# Altium integrated library Silicon Labs Wireless.IntLib: 71 symbols (part 1 of 7)
Pins are listed as number, name and electrical type; pins without a type are passive.

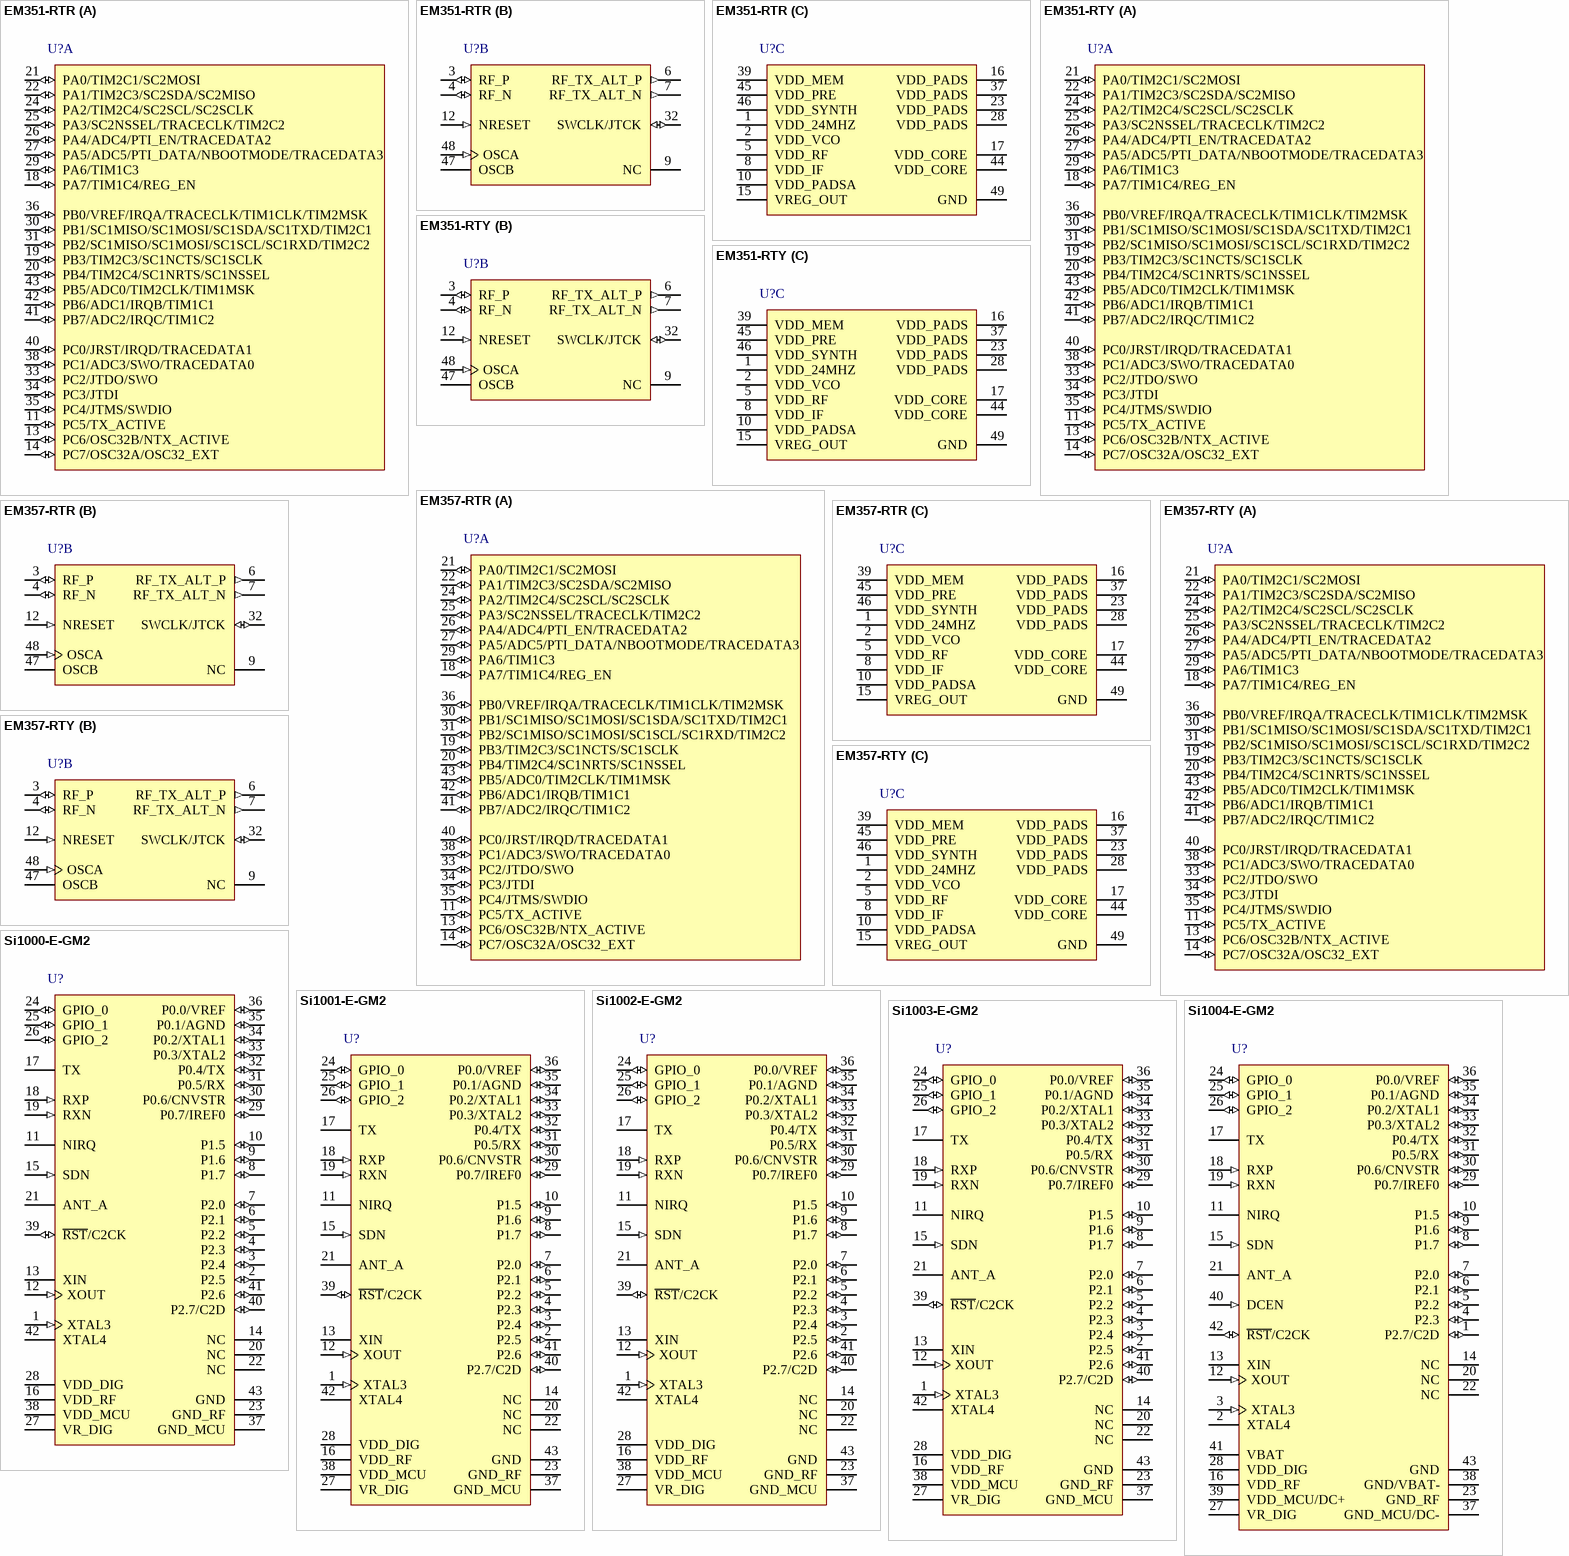
[diagram p0: symbols EM351-RTR to Si1004-E-GM2]

## EM351-RTR
designator U?
2.4 GHz High-Performance, Integrated ZigBee / 802.15.4 System-on-Chip, 2.1 to 3.6 V, 128 kB Flash, 12 kB RAM, -40 to 85 degC, 48-pin QFN, Tape and Reel; Manufacturer: Silicon Labs; PartNumber: EM351-RTR; Adj Channel Rejection (15.4): 35 dB; Crystal Frequency: 24 MHz; Deep Sleep Current: 0.4 uA (no timer); Flash: 128 kB; Frequency Range: 2400 to 2500 MHz; Internal RC Osc. Frequency: 12 MHz; RAM: 12 kB; RX Current: 26.5 mA (normal); Sensitivity: -102 dBm (boost); Total Link Budget: 110 dB (boost); TX Current: 31 mA (normal @ +3 dBm); TX Power: -55 dBm to +8 dBm (boost); DatasheetVersion: Rev. 1.2; PackageReference: QFN-48; PackageDescription: 48-Pin Quad-Flat No-Leads Package, Body 7 x 7 mm, Pitch 0.5 mm; Supplier 1: Digi-Key; Supplier Part Number 1: 636-1010-2-ND; Supplier 2: Digi-Key; Supplier Part Number 2: 636-1010-1-ND; Supplier 3: Mouser; Supplier Part Number 3: 634-EM351-RTR; Packing: Reel; Voltage: 2.1 to 3.6 V; Sub-Family: ZigBee; Mounting Technology: Surface Mount; Code_JEDEC: MO - 220; ComponentLink1Description: Manufacturer URL; ComponentLink1URL: http://www.silabs.com/; ComponentLink2Description: Datasheet; ComponentLink2URL: http://www.silabs.com/Support Documents/TechnicalDocs/EM35x.pdf; ComponentLink3Description: Package Specification; ComponentLink3URL: http://www.silabs.com/Support%20Documents/TechnicalDocs/EM35x.pdf
footprint SLAB-QFN-48-5300x5300TP_N (QFN, 48-Leads, Body 7x7mm, Pitch 0.5mm, Thermal Pad 5.3x5.3mm, IPC Medium Density)
footprint SLAB-QFN-48-5300x5300TP_L (QFN, 48-Leads, Body 7x7mm, Pitch 0.5mm, Thermal Pad 5.3x5.3mm, IPC High Density)
footprint SLAB-QFN-48-5300x5300TP_M (QFN, 48-Leads, Body 7x7mm, Pitch 0.5mm, Thermal Pad 5.3x5.3mm, IPC Low Density)
part A pins: 11 PC5/TX_ACTIVE (io), 13 PC6/OSC32B/NTX_ACTIVE (io), 14 PC7/OSC32A/OSC32_EXT (io), 18 PA7/TIM1C4/REG_EN (io), 19 PB3/TIM2C3/SC1NCTS/SC1SCLK (io), 20 PB4/TIM2C4/SC1NRTS/SC1NSSEL (io), 21 PA0/TIM2C1/SC2MOSI (io), 22 PA1/TIM2C3/SC2SDA/SC2MISO (io), 24 PA2/TIM2C4/SC2SCL/SC2SCLK (io), 25 PA3/SC2NSSEL/TRACECLK/TIM2C2 (io), 26 PA4/ADC4/PTI_EN/TRACEDATA2 (io), 27 PA5/ADC5/PTI_DATA/NBOOTMODE/TRACEDATA3 (io), 29 PA6/TIM1C3 (io), 30 PB1/SC1MISO/SC1MOSI/SC1SDA/SC1TXD/TIM2C1 (io), 31 PB2/SC1MISO/SC1MOSI/SC1SCL/SC1RXD/TIM2C2 (io), 33 PC2/JTDO/SWO (io), 34 PC3/JTDI (io), 35 PC4/JTMS/SWDIO (io), 36 PB0/VREF/IRQA/TRACECLK/TIM1CLK/TIM2MSK (io), 38 PC1/ADC3/SWO/TRACEDATA0 (io), 40 PC0/JRST/IRQD/TRACEDATA1 (io), 41 PB7/ADC2/IRQC/TIM1C2 (io), 42 PB6/ADC1/IRQB/TIM1C1 (io), 43 PB5/ADC0/TIM2CLK/TIM1MSK (io)
part B pins: 3 RF_P (io) "Differential (with RF_N) receiver input/transmitter output", 4 RF_N (io) "Differential (with RF_P) receiver input/transmitter output", 6 RF_TX_ALT_P (out) "Differential (with RF_TX_ALT_N) transmitter output (optional)", 7 RF_TX_ALT_N (out) "Differential (with RF_TX_ALT_P) transmitter output (optional)", 9 NC "Do not connect", 12 NRESET (in) "Active low chip reset (internal pull-up)", 32 SWCLK/JTCK (io), 47 OSCB "24 MHz crystal oscillator or left open when using external clock input on OSCA", 48 OSCA (in) "24 MHz crystal oscillator or external clock input.(An external clock input should only be used for test and debug purposes. If used in this manner, the external clock input should be a 1.8 V, 50% duty cycle, square wave.)"
part C pins: 1 VDD_24MHZ (power) "1.8 V high-frequency oscillator supply", 2 VDD_VCO (power) "1.8 V VCO supply", 5 VDD_RF (power) "1.8 V RF supply (LNA and PA)", 8 VDD_IF (power) "1.8 V IF supply (mixers and filters)", 10 VDD_PADSA (power) "Analog pad supply (1.8 V)", 15 VREG_OUT (power) "Regulator output (1.8 V while awake, 0 V during deep sleep)", 16 VDD_PADS (power) "Pads supply (2.1-3.6 V)", 17 VDD_CORE (power) "1.25 V digital core supply decoupling", 23 VDD_PADS (power) "Pads supply (2.1-3.6 V)", 28 VDD_PADS (power) "Pads supply (2.1-3.6 V)", 37 VDD_PADS (power) "Pads supply (2.1-3.6 V)", 39 VDD_MEM (power) "1.8 V supply (flash, RAM)", 44 VDD_CORE (power) "1.25 V digital core supply decoupling", 45 VDD_PRE (power) "1.8 V prescaler supply", 46 VDD_SYNTH (power) "1.8 V synthesizer supply", 49 GND (power) "Ground supply pad in the bottom center of the package forms Pin 49. See the various Silicon Labs EM35x Reference Design documentation for PCB considerations."

## EM351-RTY
designator U?
2.4 GHz High-Performance, Integrated ZigBee / 802.15.4 System-on-Chip, 2.1 to 3.6 V, 128 kB Flash, 12 kB RAM, -40 to 85 degC, 48-pin QFN, Tray; Manufacturer: Silicon Labs; PartNumber: EM351-RTY; Adj Channel Rejection (15.4): 35 dB; Crystal Frequency: 24 MHz; Deep Sleep Current: 0.4 uA (no timer); Flash: 128 kB; Frequency Range: 2400 to 2500 MHz; Internal RC Osc. Frequency: 12 MHz; RAM: 12 kB; RX Current: 26.5 mA (normal); Sensitivity: -102 dBm (boost); Total Link Budget: 110 dB (boost); TX Current: 31 mA (normal @ +3 dBm); TX Power: -55 dBm to +8 dBm (boost); DatasheetVersion: Rev. 1.2; PackageReference: QFN-48; PackageDescription: 48-Pin Quad-Flat No-Leads Package, Body 7 x 7 mm, Pitch 0.5 mm; Packing: Tray; Voltage: 2.1 to 3.6 V; Sub-Family: ZigBee; Mounting Technology: Surface Mount; Code_JEDEC: MO - 220; ComponentLink1Description: Manufacturer URL; ComponentLink1URL: http://www.silabs.com/; ComponentLink2Description: Datasheet; ComponentLink2URL: http://www.silabs.com/Support Documents/TechnicalDocs/EM35x.pdf; ComponentLink3Description: Package Specification; ComponentLink3URL: http://www.silabs.com/Support%20Documents/TechnicalDocs/EM35x.pdf
footprint SLAB-QFN-48-5300x5300TP_N (QFN, 48-Leads, Body 7x7mm, Pitch 0.5mm, Thermal Pad 5.3x5.3mm, IPC Medium Density)
footprint SLAB-QFN-48-5300x5300TP_L (QFN, 48-Leads, Body 7x7mm, Pitch 0.5mm, Thermal Pad 5.3x5.3mm, IPC High Density)
footprint SLAB-QFN-48-5300x5300TP_M (QFN, 48-Leads, Body 7x7mm, Pitch 0.5mm, Thermal Pad 5.3x5.3mm, IPC Low Density)
part A pins: 11 PC5/TX_ACTIVE (io), 13 PC6/OSC32B/NTX_ACTIVE (io), 14 PC7/OSC32A/OSC32_EXT (io), 18 PA7/TIM1C4/REG_EN (io), 19 PB3/TIM2C3/SC1NCTS/SC1SCLK (io), 20 PB4/TIM2C4/SC1NRTS/SC1NSSEL (io), 21 PA0/TIM2C1/SC2MOSI (io), 22 PA1/TIM2C3/SC2SDA/SC2MISO (io), 24 PA2/TIM2C4/SC2SCL/SC2SCLK (io), 25 PA3/SC2NSSEL/TRACECLK/TIM2C2 (io), 26 PA4/ADC4/PTI_EN/TRACEDATA2 (io), 27 PA5/ADC5/PTI_DATA/NBOOTMODE/TRACEDATA3 (io), 29 PA6/TIM1C3 (io), 30 PB1/SC1MISO/SC1MOSI/SC1SDA/SC1TXD/TIM2C1 (io), 31 PB2/SC1MISO/SC1MOSI/SC1SCL/SC1RXD/TIM2C2 (io), 33 PC2/JTDO/SWO (io), 34 PC3/JTDI (io), 35 PC4/JTMS/SWDIO (io), 36 PB0/VREF/IRQA/TRACECLK/TIM1CLK/TIM2MSK (io), 38 PC1/ADC3/SWO/TRACEDATA0 (io), 40 PC0/JRST/IRQD/TRACEDATA1 (io), 41 PB7/ADC2/IRQC/TIM1C2 (io), 42 PB6/ADC1/IRQB/TIM1C1 (io), 43 PB5/ADC0/TIM2CLK/TIM1MSK (io)
part B pins: 3 RF_P (io) "Differential (with RF_N) receiver input/transmitter output", 4 RF_N (io) "Differential (with RF_P) receiver input/transmitter output", 6 RF_TX_ALT_P (out) "Differential (with RF_TX_ALT_N) transmitter output (optional)", 7 RF_TX_ALT_N (out) "Differential (with RF_TX_ALT_P) transmitter output (optional)", 9 NC "Do not connect", 12 NRESET (in) "Active low chip reset (internal pull-up)", 32 SWCLK/JTCK (io), 47 OSCB "24 MHz crystal oscillator or left open when using external clock input on OSCA", 48 OSCA (in) "24 MHz crystal oscillator or external clock input.(An external clock input should only be used for test and debug purposes. If used in this manner, the external clock input should be a 1.8 V, 50% duty cycle, square wave.)"
part C pins: 1 VDD_24MHZ (power) "1.8 V high-frequency oscillator supply", 2 VDD_VCO (power) "1.8 V VCO supply", 5 VDD_RF (power) "1.8 V RF supply (LNA and PA)", 8 VDD_IF (power) "1.8 V IF supply (mixers and filters)", 10 VDD_PADSA (power) "Analog pad supply (1.8 V)", 15 VREG_OUT (power) "Regulator output (1.8 V while awake, 0 V during deep sleep)", 16 VDD_PADS (power) "Pads supply (2.1-3.6 V)", 17 VDD_CORE (power) "1.25 V digital core supply decoupling", 23 VDD_PADS (power) "Pads supply (2.1-3.6 V)", 28 VDD_PADS (power) "Pads supply (2.1-3.6 V)", 37 VDD_PADS (power) "Pads supply (2.1-3.6 V)", 39 VDD_MEM (power) "1.8 V supply (flash, RAM)", 44 VDD_CORE (power) "1.25 V digital core supply decoupling", 45 VDD_PRE (power) "1.8 V prescaler supply", 46 VDD_SYNTH (power) "1.8 V synthesizer supply", 49 GND (power) "Ground supply pad in the bottom center of the package forms Pin 49. See the various Silicon Labs EM35x Reference Design documentation for PCB considerations."

## EM357-RTR
designator U?
2.4 GHz High-Performance, Integrated ZigBee / 802.15.4 System-on-Chip, 2.1 to 3.6 V, 192 kB Flash, 12 kB RAM, -40 to 85 degC, 48-pin QFN, Tape and Reel; Manufacturer: Silicon Labs; PartNumber: EM357-RTR; Adj Channel Rejection (15.4): 35 dB; Crystal Frequency: 24 MHz; Deep Sleep Current: 0.4 uA (no timer); Flash: 192 kB; Frequency Range: 2400 to 2500 MHz; Internal RC Osc. Frequency: 12 MHz; RAM: 12 kB; RX Current: 26.5 mA (normal); Sensitivity: -102 dBm (boost); Total Link Budget: 110 dB (boost); TX Current: 31 mA (normal @ +3 dBm); TX Power: -55 dBm to +8 dBm (boost); DatasheetVersion: Rev. 1.2; PackageReference: QFN-48; PackageDescription: 48-Pin Quad-Flat No-Leads Package, Body 7 x 7 mm, Pitch 0.5 mm; Supplier 1: Digi-Key; Supplier Part Number 1: 636-1011-2-ND; Supplier 2: Digi-Key; Supplier Part Number 2: 636-1011-1-ND; Supplier 3: Digi-Key; Supplier Part Number 3: 636-1011-6-ND; Supplier 4: Mouser; Supplier Part Number 4: 634-EM357-RTR; Packing: Reel; Voltage: 2.1 to 3.6 V; Sub-Family: ZigBee; Mounting Technology: Surface Mount; Code_JEDEC: MO - 220; ComponentLink1Description: Manufacturer URL; ComponentLink1URL: http://www.silabs.com/; ComponentLink2Description: Datasheet; ComponentLink2URL: http://www.silabs.com/Support Documents/TechnicalDocs/EM35x.pdf; ComponentLink3Description: Package Specification; ComponentLink3URL: http://www.silabs.com/Support%20Documents/TechnicalDocs/EM35x.pdf
footprint SLAB-QFN-48-5300x5300TP_N (QFN, 48-Leads, Body 7x7mm, Pitch 0.5mm, Thermal Pad 5.3x5.3mm, IPC Medium Density)
footprint SLAB-QFN-48-5300x5300TP_L (QFN, 48-Leads, Body 7x7mm, Pitch 0.5mm, Thermal Pad 5.3x5.3mm, IPC High Density)
footprint SLAB-QFN-48-5300x5300TP_M (QFN, 48-Leads, Body 7x7mm, Pitch 0.5mm, Thermal Pad 5.3x5.3mm, IPC Low Density)
part A pins: 11 PC5/TX_ACTIVE (io), 13 PC6/OSC32B/NTX_ACTIVE (io), 14 PC7/OSC32A/OSC32_EXT (io), 18 PA7/TIM1C4/REG_EN (io), 19 PB3/TIM2C3/SC1NCTS/SC1SCLK (io), 20 PB4/TIM2C4/SC1NRTS/SC1NSSEL (io), 21 PA0/TIM2C1/SC2MOSI (io), 22 PA1/TIM2C3/SC2SDA/SC2MISO (io), 24 PA2/TIM2C4/SC2SCL/SC2SCLK (io), 25 PA3/SC2NSSEL/TRACECLK/TIM2C2 (io), 26 PA4/ADC4/PTI_EN/TRACEDATA2 (io), 27 PA5/ADC5/PTI_DATA/NBOOTMODE/TRACEDATA3 (io), 29 PA6/TIM1C3 (io), 30 PB1/SC1MISO/SC1MOSI/SC1SDA/SC1TXD/TIM2C1 (io), 31 PB2/SC1MISO/SC1MOSI/SC1SCL/SC1RXD/TIM2C2 (io), 33 PC2/JTDO/SWO (io), 34 PC3/JTDI (io), 35 PC4/JTMS/SWDIO (io), 36 PB0/VREF/IRQA/TRACECLK/TIM1CLK/TIM2MSK (io), 38 PC1/ADC3/SWO/TRACEDATA0 (io), 40 PC0/JRST/IRQD/TRACEDATA1 (io), 41 PB7/ADC2/IRQC/TIM1C2 (io), 42 PB6/ADC1/IRQB/TIM1C1 (io), 43 PB5/ADC0/TIM2CLK/TIM1MSK (io)
part B pins: 3 RF_P (io) "Differential (with RF_N) receiver input/transmitter output", 4 RF_N (io) "Differential (with RF_P) receiver input/transmitter output", 6 RF_TX_ALT_P (out) "Differential (with RF_TX_ALT_N) transmitter output (optional)", 7 RF_TX_ALT_N (out) "Differential (with RF_TX_ALT_P) transmitter output (optional)", 9 NC "Do not connect", 12 NRESET (in) "Active low chip reset (internal pull-up)", 32 SWCLK/JTCK (io), 47 OSCB "24 MHz crystal oscillator or left open when using external clock input on OSCA", 48 OSCA (in) "24 MHz crystal oscillator or external clock input.(An external clock input should only be used for test and debug purposes. If used in this manner, the external clock input should be a 1.8 V, 50% duty cycle, square wave.)"
part C pins: 1 VDD_24MHZ (power) "1.8 V high-frequency oscillator supply", 2 VDD_VCO (power) "1.8 V VCO supply", 5 VDD_RF (power) "1.8 V RF supply (LNA and PA)", 8 VDD_IF (power) "1.8 V IF supply (mixers and filters)", 10 VDD_PADSA (power) "Analog pad supply (1.8 V)", 15 VREG_OUT (power) "Regulator output (1.8 V while awake, 0 V during deep sleep)", 16 VDD_PADS (power) "Pads supply (2.1-3.6 V)", 17 VDD_CORE (power) "1.25 V digital core supply decoupling", 23 VDD_PADS (power) "Pads supply (2.1-3.6 V)", 28 VDD_PADS (power) "Pads supply (2.1-3.6 V)", 37 VDD_PADS (power) "Pads supply (2.1-3.6 V)", 39 VDD_MEM (power) "1.8 V supply (flash, RAM)", 44 VDD_CORE (power) "1.25 V digital core supply decoupling", 45 VDD_PRE (power) "1.8 V prescaler supply", 46 VDD_SYNTH (power) "1.8 V synthesizer supply", 49 GND (power) "Ground supply pad in the bottom center of the package forms Pin 49. See the various Silicon Labs EM35x Reference Design documentation for PCB considerations."

## EM357-RTY
designator U?
2.4 GHz High-Performance, Integrated ZigBee / 802.15.4 System-on-Chip, 2.1 to 3.6 V, 192 kB Flash, 12 kB RAM, -40 to 85 degC, 48-pin QFN, Tray; Manufacturer: Silicon Labs; PartNumber: EM357-RTY; Adj Channel Rejection (15.4): 35 dB; Crystal Frequency: 24 MHz; Deep Sleep Current: 0.4 uA (no timer); Flash: 192 kB; Frequency Range: 2400 to 2500 MHz; Internal RC Osc. Frequency: 12 MHz; RAM: 12 kB; RX Current: 26.5 mA (normal); Sensitivity: -102 dBm (boost); Total Link Budget: 110 dB (boost); TX Current: 31 mA (normal @ +3 dBm); TX Power: -55 dBm to +8 dBm (boost); DatasheetVersion: Rev. 1.2; PackageReference: QFN-48; PackageDescription: 48-Pin Quad-Flat No-Leads Package, Body 7 x 7 mm, Pitch 0.5 mm; Packing: Tray; Voltage: 2.1 to 3.6 V; Sub-Family: ZigBee; Mounting Technology: Surface Mount; Code_JEDEC: MO - 220; ComponentLink1Description: Manufacturer URL; ComponentLink1URL: http://www.silabs.com/; ComponentLink2Description: Datasheet; ComponentLink2URL: http://www.silabs.com/Support Documents/TechnicalDocs/EM35x.pdf; ComponentLink3Description: Package Specification; ComponentLink3URL: http://www.silabs.com/Support%20Documents/TechnicalDocs/EM35x.pdf
footprint SLAB-QFN-48-5300x5300TP_N (QFN, 48-Leads, Body 7x7mm, Pitch 0.5mm, Thermal Pad 5.3x5.3mm, IPC Medium Density)
footprint SLAB-QFN-48-5300x5300TP_L (QFN, 48-Leads, Body 7x7mm, Pitch 0.5mm, Thermal Pad 5.3x5.3mm, IPC High Density)
footprint SLAB-QFN-48-5300x5300TP_M (QFN, 48-Leads, Body 7x7mm, Pitch 0.5mm, Thermal Pad 5.3x5.3mm, IPC Low Density)
part A pins: 11 PC5/TX_ACTIVE (io), 13 PC6/OSC32B/NTX_ACTIVE (io), 14 PC7/OSC32A/OSC32_EXT (io), 18 PA7/TIM1C4/REG_EN (io), 19 PB3/TIM2C3/SC1NCTS/SC1SCLK (io), 20 PB4/TIM2C4/SC1NRTS/SC1NSSEL (io), 21 PA0/TIM2C1/SC2MOSI (io), 22 PA1/TIM2C3/SC2SDA/SC2MISO (io), 24 PA2/TIM2C4/SC2SCL/SC2SCLK (io), 25 PA3/SC2NSSEL/TRACECLK/TIM2C2 (io), 26 PA4/ADC4/PTI_EN/TRACEDATA2 (io), 27 PA5/ADC5/PTI_DATA/NBOOTMODE/TRACEDATA3 (io), 29 PA6/TIM1C3 (io), 30 PB1/SC1MISO/SC1MOSI/SC1SDA/SC1TXD/TIM2C1 (io), 31 PB2/SC1MISO/SC1MOSI/SC1SCL/SC1RXD/TIM2C2 (io), 33 PC2/JTDO/SWO (io), 34 PC3/JTDI (io), 35 PC4/JTMS/SWDIO (io), 36 PB0/VREF/IRQA/TRACECLK/TIM1CLK/TIM2MSK (io), 38 PC1/ADC3/SWO/TRACEDATA0 (io), 40 PC0/JRST/IRQD/TRACEDATA1 (io), 41 PB7/ADC2/IRQC/TIM1C2 (io), 42 PB6/ADC1/IRQB/TIM1C1 (io), 43 PB5/ADC0/TIM2CLK/TIM1MSK (io)
part B pins: 3 RF_P (io) "Differential (with RF_N) receiver input/transmitter output", 4 RF_N (io) "Differential (with RF_P) receiver input/transmitter output", 6 RF_TX_ALT_P (out) "Differential (with RF_TX_ALT_N) transmitter output (optional)", 7 RF_TX_ALT_N (out) "Differential (with RF_TX_ALT_P) transmitter output (optional)", 9 NC "Do not connect", 12 NRESET (in) "Active low chip reset (internal pull-up)", 32 SWCLK/JTCK (io), 47 OSCB "24 MHz crystal oscillator or left open when using external clock input on OSCA", 48 OSCA (in) "24 MHz crystal oscillator or external clock input.(An external clock input should only be used for test and debug purposes. If used in this manner, the external clock input should be a 1.8 V, 50% duty cycle, square wave.)"
part C pins: 1 VDD_24MHZ (power) "1.8 V high-frequency oscillator supply", 2 VDD_VCO (power) "1.8 V VCO supply", 5 VDD_RF (power) "1.8 V RF supply (LNA and PA)", 8 VDD_IF (power) "1.8 V IF supply (mixers and filters)", 10 VDD_PADSA (power) "Analog pad supply (1.8 V)", 15 VREG_OUT (power) "Regulator output (1.8 V while awake, 0 V during deep sleep)", 16 VDD_PADS (power) "Pads supply (2.1-3.6 V)", 17 VDD_CORE (power) "1.25 V digital core supply decoupling", 23 VDD_PADS (power) "Pads supply (2.1-3.6 V)", 28 VDD_PADS (power) "Pads supply (2.1-3.6 V)", 37 VDD_PADS (power) "Pads supply (2.1-3.6 V)", 39 VDD_MEM (power) "1.8 V supply (flash, RAM)", 44 VDD_CORE (power) "1.25 V digital core supply decoupling", 45 VDD_PRE (power) "1.8 V prescaler supply", 46 VDD_SYNTH (power) "1.8 V synthesizer supply", 49 GND (power) "Ground supply pad in the bottom center of the package forms Pin 49. See the various Silicon Labs EM35x Reference Design documentation for PCB considerations."

## Si1000-E-GM2
designator U?
Ultra Low Power, 10-Bit ADC MCU with Integrated 240 to 960 MHz EZRadioPRO(R) Transceiver, 64 kB Flash, 4 Timers (16-Bit), -40 to 85 degC, 42-pin LGA, Tube; Manufacturer: Silicon Labs; PartNumber: Si1000-E-GM2; Comparators: 2; Dig I/O Pins: 22; Flash: 64 kB; FSK/GFSK Data Rate: 256 kbps; Internal Osc. Accuracy: +/-2%; OOK Data Rate: 40 kbps; Output Power: 1 to 20 dBm; PCA Channels: 6; RX Current: 18.5 mA; Temp Sensor: TRUE; Timers (16-bit): 4; Sub-Family: Wireless MCUs; DatasheetVersion: Rev. 1.3; PackageReference: LGA-42; PackageDescription: 42-Pin Land Grid Array, Body 5 x 7 mm, Pitch 0.5 mm; Supplier 1: Digi-Key; Supplier Part Number 1: 336-2461-5-ND; Supplier 2: Mouser; Supplier Part Number 2: 634-SI1000-E-GM2; Frequency Range: 240 to 960 MHz; Packing: Tube; Mounting Technology: Surface Mount; Code_IPC: J-STD-020C; ComponentLink1Description: Manufacturer URL; ComponentLink1URL: http://www.silabs.com/; ComponentLink2Description: Datasheet; ComponentLink2URL: http://www.silabs.com/Support Documents/TechnicalDocs/Si1000.pdf; ComponentLink3Description: Package Specification; ComponentLink3URL: http://www.silabs.com/Support%20Documents/TechnicalDocs/Si1000.pdf
footprint SLAB-LGA-42_V (LGA, 42-Leads, Body 7x5mm, Pitch 0.5mm, Thermal Pad 3.15x5.4mm)
pins: 1 XTAL3 (in) "SmaRTClock Oscillator Crystal Input. See Section 20 for a complete description.", 2 P2.5 (io) "Port 2.5. See Port I/O section for a complete description.", 3 P2.4 (io) "Port 2.4. See Port I/O section for a complete description.", 4 P2.3 (io) "Port 2.3. See Port I/O section for a complete description.", 5 P2.2 (io) "Port 2.2. See Port I/O section for a complete description.", 6 P2.1 (io) "Port 2.1. See Port I/O section for a complete description.", 7 P2.0 (io) "Port 2.0. See Port I/O section for a complete description.", 8 P1.7 (io) "Port 1.6. See Port I/O section for a complete description.", 9 P1.6 (io) "Port 1.7. See Port I/O section for a complete description.", 10 P1.5 (io) "Port 1.5. See Port I/O section for a complete description.", 11 NIRQ (oc) "EZRadioPRO peripheral interrupt status pin. Will be set low to indicate a pending EZRadioPRO interrupt event. See the EZRadioPRO Control Logic Registers for more details. This pin is an open-drain output with a 220 kohm (See Datasheet)", 12 XOUT (in) "EZRadioPRO peripheral crystal oscillator output. Connect to an external 30 MHz crystal or to an external clock source. If using an external clock source with no crystal, dc coupling with a nominal 0.8 VDC level is (See Datasheet)", 13 XIN "EZRadioPRO peripheral crystal oscillator input. Connect to an external 30 MHz crystal or leave floating if driving the XOUT pin with an external signal source.", 14 NC "No Connect. May be left floating or tied to power or ground.", 15 SDN (in) "EZRadioPRO peripheral shutdown pin. When driven to logic HIGH, the EZRadioPRO peripheral will be completely shut down and the contents of the EZRadioPRO registers will be lost. This pin should be driven to logic LOW during (See Datasheet)", 16 VDD_RF (power) "Power Supply Voltage for the analog portion of the   EZRadioPRO peripheral. Must be 1.8 to 3.6 V.", 17 TX (oc) "EZRadioPRO peripheral transmit RF output pin. The PA output is an open-drain connection so the L-C match must supply (1.8 to 3.6 VDC) to this pin.", 18 RXP (in) "EZRadioPRO peripheral differential RF input pins of the LNA. See application schematic for example matching network.", 19 RXN (in) "EZRadioPRO peripheral differential RF input pins of the LNA. See application schematic for example matching network.", 20 NC "No Connect. May be left floating or tied to power or ground.", 21 ANT_A "EZRadioPRO peripheral TR switch control signal.", 22 NC "No Connect. May be left floating or tied to power or ground.", 23 GND_RF (power) "Required Ground for the digital and analog portions of the EZRadioPRO peripheral.", 24 GPIO_0 (io) "General Purpose I/O controlled by the EZRadioPRO peripheral. May be configured through the EZRadioPRO registers to perform various functions including: Clock Output, FIFO status, POR, Wake-Up Timer, Low Battery Detect, TRSW, (See Datasheet)", 25 GPIO_1 (io) "General Purpose I/O controlled by the EZRadioPRO peripheral. May be configured through the EZRadioPRO registers to perform various functions including: Clock Output, FIFO status, POR, Wake-Up Timer, Low Battery Detect, TRSW, (See Datasheet)", 26 GPIO_2 (io) "General Purpose I/O controlled by the EZRadioPRO peripheral. May be configured through the EZRadioPRO registers to perform various functions including: Clock Output, FIFO status, POR, Wake-Up Timer, Low Battery Detect, TRSW, (See Datasheet)", 27 VR_DIG (power) "Regulated Output Voltage of the digital 1.7 V regulator for the EZRadioPRO peripheral. A 1 uF decoupling capacitor is required.", 28 VDD_DIG (power) "Power Supply Voltage for the digital portion of the   EZRadioPRO peripheral. Must be 1.8 to 3.6 V.", 29 P0.7/IREF0 (io), 30 P0.6/CNVSTR (io), 31 P0.5/RX (io), 32 P0.4/TX (io), 33 P0.3/XTAL2 (io), 34 P0.2/XTAL1 (io), 35 P0.1/AGND (io), 36 P0.0/VREF (io), 37 GND_MCU (power) "Required Ground for the entire MCU except for the   EZRadioPRO peripheral.", 38 VDD_MCU (power) "Power Supply Voltage for the entire MCU except for the EZRadioPRO peripheral. Must be 1.8 to 3.6 V.", 39 ~{RST}/C2CK (io), 40 P2.7/C2D (io), 41 P2.6 (io) "Port 2.6. See Port I/O section for a complete description.", 42 XTAL4 "SmaRTClock Oscillator Crystal Output. See Section 20 for a complete description.", 43 GND (power)

## Si1001-E-GM2
designator U?
Ultra Low Power, 10-Bit ADC MCU with Integrated 240 to 960 MHz EZRadioPRO(R) Transceiver, 32 kB Flash, 4 Timers (16-Bit), -40 to 85 degC, 42-pin LGA, Tube; Manufacturer: Silicon Labs; PartNumber: Si1001-E-GM2; Comparators: 2; Dig I/O Pins: 22; Flash: 32 kB; FSK/GFSK Data Rate: 256 kbps; Internal Osc. Accuracy: +/-2%; OOK Data Rate: 40 kbps; Output Power: 1 to 20 dBm; PCA Channels: 6; RX Current: 18.5 mA; Temp Sensor: TRUE; Timers (16-bit): 4; Sub-Family: Wireless MCUs; DatasheetVersion: Rev. 1.3; PackageReference: LGA-42; PackageDescription: 42-Pin Land Grid Array, Body 5 x 7 mm, Pitch 0.5 mm; Supplier 1: Digi-Key; Supplier Part Number 1: 336-2466-5-ND; Supplier 2: Mouser; Supplier Part Number 2: 634-SI1001-E-GM2; Frequency Range: 240 to 960 MHz; Packing: Tube; Mounting Technology: Surface Mount; Code_IPC: J-STD-020C; ComponentLink1Description: Manufacturer URL; ComponentLink1URL: http://www.silabs.com/; ComponentLink2Description: Datasheet; ComponentLink2URL: http://www.silabs.com/Support Documents/TechnicalDocs/Si1000.pdf; ComponentLink3Description: Package Specification; ComponentLink3URL: http://www.silabs.com/Support%20Documents/TechnicalDocs/Si1000.pdf
footprint SLAB-LGA-42_V (LGA, 42-Leads, Body 7x5mm, Pitch 0.5mm, Thermal Pad 3.15x5.4mm)
pins: 1 XTAL3 (in) "SmaRTClock Oscillator Crystal Input. See Section 20 for a complete description.", 2 P2.5 (io) "Port 2.5. See Port I/O section for a complete description.", 3 P2.4 (io) "Port 2.4. See Port I/O section for a complete description.", 4 P2.3 (io) "Port 2.3. See Port I/O section for a complete description.", 5 P2.2 (io) "Port 2.2. See Port I/O section for a complete description.", 6 P2.1 (io) "Port 2.1. See Port I/O section for a complete description.", 7 P2.0 (io) "Port 2.0. See Port I/O section for a complete description.", 8 P1.7 (io) "Port 1.6. See Port I/O section for a complete description.", 9 P1.6 (io) "Port 1.7. See Port I/O section for a complete description.", 10 P1.5 (io) "Port 1.5. See Port I/O section for a complete description.", 11 NIRQ (oc) "EZRadioPRO peripheral interrupt status pin. Will be set low to indicate a pending EZRadioPRO interrupt event. See the EZRadioPRO Control Logic Registers for more details. This pin is an open-drain output with a 220 kohm (See Datasheet)", 12 XOUT (in) "EZRadioPRO peripheral crystal oscillator output. Connect to an external 30 MHz crystal or to an external clock source. If using an external clock source with no crystal, dc coupling with a nominal 0.8 VDC level is (See Datasheet)", 13 XIN "EZRadioPRO peripheral crystal oscillator input. Connect to an external 30 MHz crystal or leave floating if driving the XOUT pin with an external signal source.", 14 NC "No Connect. May be left floating or tied to power or ground.", 15 SDN (in) "EZRadioPRO peripheral shutdown pin. When driven to logic HIGH, the EZRadioPRO peripheral will be completely shut down and the contents of the EZRadioPRO registers will be lost. This pin should be driven to logic LOW during (See Datasheet)", 16 VDD_RF (power) "Power Supply Voltage for the analog portion of the   EZRadioPRO peripheral. Must be 1.8 to 3.6 V.", 17 TX (oc) "EZRadioPRO peripheral transmit RF output pin. The PA output is an open-drain connection so the L-C match must supply (1.8 to 3.6 VDC) to this pin.", 18 RXP (in) "EZRadioPRO peripheral differential RF input pins of the LNA. See application schematic for example matching network.", 19 RXN (in) "EZRadioPRO peripheral differential RF input pins of the LNA. See application schematic for example matching network.", 20 NC "No Connect. May be left floating or tied to power or ground.", 21 ANT_A "EZRadioPRO peripheral TR switch control signal.", 22 NC "No Connect. May be left floating or tied to power or ground.", 23 GND_RF (power) "Required Ground for the digital and analog portions of the EZRadioPRO peripheral.", 24 GPIO_0 (io) "General Purpose I/O controlled by the EZRadioPRO peripheral. May be configured through the EZRadioPRO registers to perform various functions including: Clock Output, FIFO status, POR, Wake-Up Timer, Low Battery Detect, TRSW, (See Datasheet)", 25 GPIO_1 (io) "General Purpose I/O controlled by the EZRadioPRO peripheral. May be configured through the EZRadioPRO registers to perform various functions including: Clock Output, FIFO status, POR, Wake-Up Timer, Low Battery Detect, TRSW, (See Datasheet)", 26 GPIO_2 (io) "General Purpose I/O controlled by the EZRadioPRO peripheral. May be configured through the EZRadioPRO registers to perform various functions including: Clock Output, FIFO status, POR, Wake-Up Timer, Low Battery Detect, TRSW, (See Datasheet)", 27 VR_DIG (power) "Regulated Output Voltage of the digital 1.7 V regulator for the EZRadioPRO peripheral. A 1 uF decoupling capacitor is required.", 28 VDD_DIG (power) "Power Supply Voltage for the digital portion of the   EZRadioPRO peripheral. Must be 1.8 to 3.6 V.", 29 P0.7/IREF0 (io), 30 P0.6/CNVSTR (io), 31 P0.5/RX (io), 32 P0.4/TX (io), 33 P0.3/XTAL2 (io), 34 P0.2/XTAL1 (io), 35 P0.1/AGND (io), 36 P0.0/VREF (io), 37 GND_MCU (power) "Required Ground for the entire MCU except for the   EZRadioPRO peripheral.", 38 VDD_MCU (power) "Power Supply Voltage for the entire MCU except for the EZRadioPRO peripheral. Must be 1.8 to 3.6 V.", 39 ~{RST}/C2CK (io), 40 P2.7/C2D (io), 41 P2.6 (io) "Port 2.6. See Port I/O section for a complete description.", 42 XTAL4 "SmaRTClock Oscillator Crystal Output. See Section 20 for a complete description.", 43 GND (power)

## Si1002-E-GM2
designator U?
Ultra Low Power, 10-Bit ADC MCU with Integrated 240 to 960 MHz EZRadioPRO(R) Transceiver, 64 kB Flash, 4 Timers (16-Bit), -40 to 85 degC, 42-pin LGA, Tube; Manufacturer: Silicon Labs; PartNumber: Si1002-E-GM2; Comparators: 2; Dig I/O Pins: 22; Flash: 64 kB; FSK/GFSK Data Rate: 256 kbps; Internal Osc. Accuracy: +/-2%; OOK Data Rate: 40 kbps; Output Power: -4 to 13 dBm; PCA Channels: 6; RX Current: 18.5 mA; Temp Sensor: TRUE; Timers (16-bit): 4; Sub-Family: Wireless MCUs; DatasheetVersion: Rev. 1.3; PackageReference: LGA-42; PackageDescription: 42-Pin Land Grid Array, Body 5 x 7 mm, Pitch 0.5 mm; Supplier 1: Digi-Key; Supplier Part Number 1: 336-2465-5-ND; Supplier 2: Mouser; Supplier Part Number 2: 634-SI1002-E-GM2; Frequency Range: 240 to 960 MHz; Packing: Tube; Mounting Technology: Surface Mount; Code_IPC: J-STD-020C; ComponentLink1Description: Manufacturer URL; ComponentLink1URL: http://www.silabs.com/; ComponentLink2Description: Datasheet; ComponentLink2URL: http://www.silabs.com/Support Documents/TechnicalDocs/Si1000.pdf; ComponentLink3Description: Package Specification; ComponentLink3URL: http://www.silabs.com/Support%20Documents/TechnicalDocs/Si1000.pdf
footprint SLAB-LGA-42_V (LGA, 42-Leads, Body 7x5mm, Pitch 0.5mm, Thermal Pad 3.15x5.4mm)
pins: 1 XTAL3 (in) "SmaRTClock Oscillator Crystal Input. See Section 20 for a complete description.", 2 P2.5 (io) "Port 2.5. See Port I/O section for a complete description.", 3 P2.4 (io) "Port 2.4. See Port I/O section for a complete description.", 4 P2.3 (io) "Port 2.3. See Port I/O section for a complete description.", 5 P2.2 (io) "Port 2.2. See Port I/O section for a complete description.", 6 P2.1 (io) "Port 2.1. See Port I/O section for a complete description.", 7 P2.0 (io) "Port 2.0. See Port I/O section for a complete description.", 8 P1.7 (io) "Port 1.6. See Port I/O section for a complete description.", 9 P1.6 (io) "Port 1.7. See Port I/O section for a complete description.", 10 P1.5 (io) "Port 1.5. See Port I/O section for a complete description.", 11 NIRQ (oc) "EZRadioPRO peripheral interrupt status pin. Will be set low to indicate a pending EZRadioPRO interrupt event. See the EZRadioPRO Control Logic Registers for more details. This pin is an open-drain output with a 220 kohm (See Datasheet)", 12 XOUT (in) "EZRadioPRO peripheral crystal oscillator output. Connect to an external 30 MHz crystal or to an external clock source. If using an external clock source with no crystal, dc coupling with a nominal 0.8 VDC level is (See Datasheet)", 13 XIN "EZRadioPRO peripheral crystal oscillator input. Connect to an external 30 MHz crystal or leave floating if driving the XOUT pin with an external signal source.", 14 NC "No Connect. May be left floating or tied to power or ground.", 15 SDN (in) "EZRadioPRO peripheral shutdown pin. When driven to logic HIGH, the EZRadioPRO peripheral will be completely shut down and the contents of the EZRadioPRO registers will be lost. This pin should be driven to logic LOW during (See Datasheet)", 16 VDD_RF (power) "Power Supply Voltage for the analog portion of the   EZRadioPRO peripheral. Must be 1.8 to 3.6 V.", 17 TX (oc) "EZRadioPRO peripheral transmit RF output pin. The PA output is an open-drain connection so the L-C match must supply (1.8 to 3.6 VDC) to this pin.", 18 RXP (in) "EZRadioPRO peripheral differential RF input pins of the LNA. See application schematic for example matching network.", 19 RXN (in) "EZRadioPRO peripheral differential RF input pins of the LNA. See application schematic for example matching network.", 20 NC "No Connect. May be left floating or tied to power or ground.", 21 ANT_A "EZRadioPRO peripheral TR switch control signal.", 22 NC "No Connect. May be left floating or tied to power or ground.", 23 GND_RF (power) "Required Ground for the digital and analog portions of the EZRadioPRO peripheral.", 24 GPIO_0 (io) "General Purpose I/O controlled by the EZRadioPRO peripheral. May be configured through the EZRadioPRO registers to perform various functions including: Clock Output, FIFO status, POR, Wake-Up Timer, Low Battery Detect, TRSW, (See Datasheet)", 25 GPIO_1 (io) "General Purpose I/O controlled by the EZRadioPRO peripheral. May be configured through the EZRadioPRO registers to perform various functions including: Clock Output, FIFO status, POR, Wake-Up Timer, Low Battery Detect, TRSW, (See Datasheet)", 26 GPIO_2 (io) "General Purpose I/O controlled by the EZRadioPRO peripheral. May be configured through the EZRadioPRO registers to perform various functions including: Clock Output, FIFO status, POR, Wake-Up Timer, Low Battery Detect, TRSW, (See Datasheet)", 27 VR_DIG (power) "Regulated Output Voltage of the digital 1.7 V regulator for the EZRadioPRO peripheral. A 1 uF decoupling capacitor is required.", 28 VDD_DIG (power) "Power Supply Voltage for the digital portion of the   EZRadioPRO peripheral. Must be 1.8 to 3.6 V.", 29 P0.7/IREF0 (io), 30 P0.6/CNVSTR (io), 31 P0.5/RX (io), 32 P0.4/TX (io), 33 P0.3/XTAL2 (io), 34 P0.2/XTAL1 (io), 35 P0.1/AGND (io), 36 P0.0/VREF (io), 37 GND_MCU (power) "Required Ground for the entire MCU except for the   EZRadioPRO peripheral.", 38 VDD_MCU (power) "Power Supply Voltage for the entire MCU except for the EZRadioPRO peripheral. Must be 1.8 to 3.6 V.", 39 ~{RST}/C2CK (io), 40 P2.7/C2D (io), 41 P2.6 (io) "Port 2.6. See Port I/O section for a complete description.", 42 XTAL4 "SmaRTClock Oscillator Crystal Output. See Section 20 for a complete description.", 43 GND (power)

## Si1003-E-GM2
designator U?
Ultra Low Power, 10-Bit ADC MCU with Integrated 240 to 960 MHz EZRadioPRO(R) Transceiver, 32 kB Flash, 4 Timers (16-Bit), -40 to 85 degC, 42-pin LGA, Tube; Manufacturer: Silicon Labs; PartNumber: Si1003-E-GM2; Comparators: 2; Dig I/O Pins: 22; Flash: 32 kB; FSK/GFSK Data Rate: 256 kbps; Internal Osc. Accuracy: +/-2%; OOK Data Rate: 40 kbps; Output Power: -4 to 13 dBm; PCA Channels: 6; RX Current: 18.5 mA; Temp Sensor: TRUE; Timers (16-bit): 4; Sub-Family: Wireless MCUs; DatasheetVersion: Rev. 1.3; PackageReference: LGA-42; PackageDescription: 42-Pin Land Grid Array, Body 5 x 7 mm, Pitch 0.5 mm; Supplier 1: Digi-Key; Supplier Part Number 1: 336-2464-5-ND; Supplier 2: Mouser; Supplier Part Number 2: 634-SI1003-E-GM2; Frequency Range: 240 to 960 MHz; Packing: Tube; Mounting Technology: Surface Mount; Code_IPC: J-STD-020C; ComponentLink1Description: Manufacturer URL; ComponentLink1URL: http://www.silabs.com/; ComponentLink2Description: Datasheet; ComponentLink2URL: http://www.silabs.com/Support Documents/TechnicalDocs/Si1000.pdf; ComponentLink3Description: Package Specification; ComponentLink3URL: http://www.silabs.com/Support%20Documents/TechnicalDocs/Si1000.pdf
footprint SLAB-LGA-42_V (LGA, 42-Leads, Body 7x5mm, Pitch 0.5mm, Thermal Pad 3.15x5.4mm)
pins: 1 XTAL3 (in) "SmaRTClock Oscillator Crystal Input. See Section 20 for a complete description.", 2 P2.5 (io) "Port 2.5. See Port I/O section for a complete description.", 3 P2.4 (io) "Port 2.4. See Port I/O section for a complete description.", 4 P2.3 (io) "Port 2.3. See Port I/O section for a complete description.", 5 P2.2 (io) "Port 2.2. See Port I/O section for a complete description.", 6 P2.1 (io) "Port 2.1. See Port I/O section for a complete description.", 7 P2.0 (io) "Port 2.0. See Port I/O section for a complete description.", 8 P1.7 (io) "Port 1.6. See Port I/O section for a complete description.", 9 P1.6 (io) "Port 1.7. See Port I/O section for a complete description.", 10 P1.5 (io) "Port 1.5. See Port I/O section for a complete description.", 11 NIRQ (oc) "EZRadioPRO peripheral interrupt status pin. Will be set low to indicate a pending EZRadioPRO interrupt event. See the EZRadioPRO Control Logic Registers for more details. This pin is an open-drain output with a 220 kohm (See Datasheet)", 12 XOUT (in) "EZRadioPRO peripheral crystal oscillator output. Connect to an external 30 MHz crystal or to an external clock source. If using an external clock source with no crystal, dc coupling with a nominal 0.8 VDC level is (See Datasheet)", 13 XIN "EZRadioPRO peripheral crystal oscillator input. Connect to an external 30 MHz crystal or leave floating if driving the XOUT pin with an external signal source.", 14 NC "No Connect. May be left floating or tied to power or ground.", 15 SDN (in) "EZRadioPRO peripheral shutdown pin. When driven to logic HIGH, the EZRadioPRO peripheral will be completely shut down and the contents of the EZRadioPRO registers will be lost. This pin should be driven to logic LOW during (See Datasheet)", 16 VDD_RF (power) "Power Supply Voltage for the analog portion of the   EZRadioPRO peripheral. Must be 1.8 to 3.6 V.", 17 TX (oc) "EZRadioPRO peripheral transmit RF output pin. The PA output is an open-drain connection so the L-C match must supply (1.8 to 3.6 VDC) to this pin.", 18 RXP (in) "EZRadioPRO peripheral differential RF input pins of the LNA. See application schematic for example matching network.", 19 RXN (in) "EZRadioPRO peripheral differential RF input pins of the LNA. See application schematic for example matching network.", 20 NC "No Connect. May be left floating or tied to power or ground.", 21 ANT_A "EZRadioPRO peripheral TR switch control signal.", 22 NC "No Connect. May be left floating or tied to power or ground.", 23 GND_RF (power) "Required Ground for the digital and analog portions of the EZRadioPRO peripheral.", 24 GPIO_0 (io) "General Purpose I/O controlled by the EZRadioPRO peripheral. May be configured through the EZRadioPRO registers to perform various functions including: Clock Output, FIFO status, POR, Wake-Up Timer, Low Battery Detect, TRSW, (See Datasheet)", 25 GPIO_1 (io) "General Purpose I/O controlled by the EZRadioPRO peripheral. May be configured through the EZRadioPRO registers to perform various functions including: Clock Output, FIFO status, POR, Wake-Up Timer, Low Battery Detect, TRSW, (See Datasheet)", 26 GPIO_2 (io) "General Purpose I/O controlled by the EZRadioPRO peripheral. May be configured through the EZRadioPRO registers to perform various functions including: Clock Output, FIFO status, POR, Wake-Up Timer, Low Battery Detect, TRSW, (See Datasheet)", 27 VR_DIG (power) "Regulated Output Voltage of the digital 1.7 V regulator for the EZRadioPRO peripheral. A 1 uF decoupling capacitor is required.", 28 VDD_DIG (power) "Power Supply Voltage for the digital portion of the   EZRadioPRO peripheral. Must be 1.8 to 3.6 V.", 29 P0.7/IREF0 (io), 30 P0.6/CNVSTR (io), 31 P0.5/RX (io), 32 P0.4/TX (io), 33 P0.3/XTAL2 (io), 34 P0.2/XTAL1 (io), 35 P0.1/AGND (io), 36 P0.0/VREF (io), 37 GND_MCU (power) "Required Ground for the entire MCU except for the   EZRadioPRO peripheral.", 38 VDD_MCU (power) "Power Supply Voltage for the entire MCU except for the EZRadioPRO peripheral. Must be 1.8 to 3.6 V.", 39 ~{RST}/C2CK (io), 40 P2.7/C2D (io), 41 P2.6 (io) "Port 2.6. See Port I/O section for a complete description.", 42 XTAL4 "SmaRTClock Oscillator Crystal Output. See Section 20 for a complete description.", 43 GND (power)

## Si1004-E-GM2
designator U?
Ultra Low Power, 10-Bit ADC MCU with Integrated 240 to 960 MHz EZRadioPRO(R) Transceiver, 64 kB Flash, 4 Timers (16-Bit), -40 to 85 degC, 42-pin LGA, Tube; Manufacturer: Silicon Labs; PartNumber: Si1004-E-GM2; Comparators: 2; Dig I/O Pins: 19; Flash: 64 kB; FSK/GFSK Data Rate: 256 kbps; Internal Osc. Accuracy: +/-2%; OOK Data Rate: 40 kbps; Output Power: -8 to 13 dBm; PCA Channels: 6; RX Current: 18.5 mA; Temp Sensor: TRUE; Timers (16-bit): 4; Sub-Family: Wireless MCUs; DatasheetVersion: Rev. 1.3; PackageReference: LGA-42; PackageDescription: 42-Pin Land Grid Array, Body 5 x 7 mm, Pitch 0.5 mm; Supplier 1: Digi-Key; Supplier Part Number 1: 336-2463-5-ND; Supplier 2: Mouser; Supplier Part Number 2: 634-SI1004-E-GM2; Frequency Range: 240 to 960 MHz; Packing: Tube; Mounting Technology: Surface Mount; Code_IPC: J-STD-020C; ComponentLink1Description: Manufacturer URL; ComponentLink1URL: http://www.silabs.com/; ComponentLink2Description: Datasheet; ComponentLink2URL: http://www.silabs.com/Support Documents/TechnicalDocs/Si1000.pdf; ComponentLink3Description: Package Specification; ComponentLink3URL: http://www.silabs.com/Support%20Documents/TechnicalDocs/Si1000.pdf
footprint SLAB-LGA-42_V (LGA, 42-Leads, Body 7x5mm, Pitch 0.5mm, Thermal Pad 3.15x5.4mm)
pins: 1 P2.7/C2D (io), 2 XTAL4 "SmaRTClock Oscillator Crystal Output. See Section 20 for a complete description.", 3 XTAL3 (in) "SmaRTClock Oscillator Crystal Input. See Section 20 for a complete description.", 4 P2.3 (io) "Port 2.3. See Port I/O section for a complete description.", 5 P2.2 (io) "Port 2.2. See Port I/O section for a complete description.", 6 P2.1 (io) "Port 2.1. See Port I/O section for a complete description.", 7 P2.0 (io) "Port 2.0. See Port I/O section for a complete description.", 8 P1.7 (io) "Port 1.6. See Port I/O section for a complete description.", 9 P1.6 (io) "Port 1.7. See Port I/O section for a complete description.", 10 P1.5 (io) "Port 1.5. See Port I/O section for a complete description.", 11 NIRQ (oc) "EZRadioPRO peripheral interrupt status pin. Will be set low to indicate a pending EZRadioPRO interrupt event. See the EZRadioPRO Control Logic Registers for more details. This pin is an open-drain output with a 220 kohm (See Datasheet)", 12 XOUT (in) "EZRadioPRO peripheral crystal oscillator output. Connect to an external 30 MHz crystal or to an external clock source. If using an external clock source with no crystal, dc coupling with a nominal 0.8 VDC level is (See Datasheet)", 13 XIN "EZRadioPRO peripheral crystal oscillator input. Connect to an external 30 MHz crystal or leave floating if driving the XOUT pin with an external signal source.", 14 NC "No Connect. May be left floating or tied to power or ground.", 15 SDN (in) "EZRadioPRO peripheral shutdown pin. When driven to logic HIGH, the EZRadioPRO peripheral will be completely shut down and the contents of the EZRadioPRO registers will be lost. This pin should be driven to logic LOW during (See Datasheet)", 16 VDD_RF (power) "Power Supply Voltage for the analog portion of the   EZRadioPRO peripheral. Must be 1.8 to 3.6 V.", 17 TX (oc) "EZRadioPRO peripheral transmit RF output pin. The PA output is an open-drain connection so the L-C match must supply (1.8 to 3.6 VDC) to this pin.", 18 RXP (in) "EZRadioPRO peripheral differential RF input pins of the LNA. See application schematic for example matching network.", 19 RXN (in) "EZRadioPRO peripheral differential RF input pins of the LNA. See application schematic for example matching network.", 20 NC "No Connect. May be left floating or tied to power or ground.", 21 ANT_A "EZRadioPRO peripheral TR switch control signal.", 22 NC "No Connect. May be left floating or tied to power or ground.", 23 GND_RF (power) "Required Ground for the digital and analog portions of the EZRadioPRO peripheral.", 24 GPIO_0 (io) "General Purpose I/O controlled by the EZRadioPRO peripheral. May be configured through the EZRadioPRO registers to perform various functions including: Clock Output, FIFO status, POR, Wake-Up Timer, Low Battery Detect, TRSW, (See Datasheet)", 25 GPIO_1 (io) "General Purpose I/O controlled by the EZRadioPRO peripheral. May be configured through the EZRadioPRO registers to perform various functions including: Clock Output, FIFO status, POR, Wake-Up Timer, Low Battery Detect, TRSW, (See Datasheet)", 26 GPIO_2 (io) "General Purpose I/O controlled by the EZRadioPRO peripheral. May be configured through the EZRadioPRO registers to perform various functions including: Clock Output, FIFO status, POR, Wake-Up Timer, Low Battery Detect, TRSW, (See Datasheet)", 27 VR_DIG (power) "Regulated Output Voltage of the digital 1.7 V regulator for the EZRadioPRO peripheral. A 1 uF decoupling capacitor is required.", 28 VDD_DIG (power) "Power Supply Voltage for the digital portion of the   EZRadioPRO peripheral. Must be 1.8 to 3.6 V.", 29 P0.7/IREF0 (io), 30 P0.6/CNVSTR (io), 31 P0.5/RX (io), 32 P0.4/TX (io), 33 P0.3/XTAL2 (io), 34 P0.2/XTAL1 (io), 35 P0.1/AGND (io), 36 P0.0/VREF (io), 37 GND_MCU/DC- (power), 38 GND/VBAT- (power), 39 VDD_MCU/DC+ (power), 40 DCEN (in) "DC-DC Enable Pin. In single-cell battery mode, this pin must be connected to VBAT through a 0.68 uH inductor. In dual-cell battery mode, this pin must be connected directly to ground.", 41 VBAT (power) "Battery Supply Voltage. Must be 0.9 to 1.8 V in single-cell battery mode and 1.8 to 3.6 V in dual-cell battery mode.", 42 ~{RST}/C2CK (io), 43 GND (power)

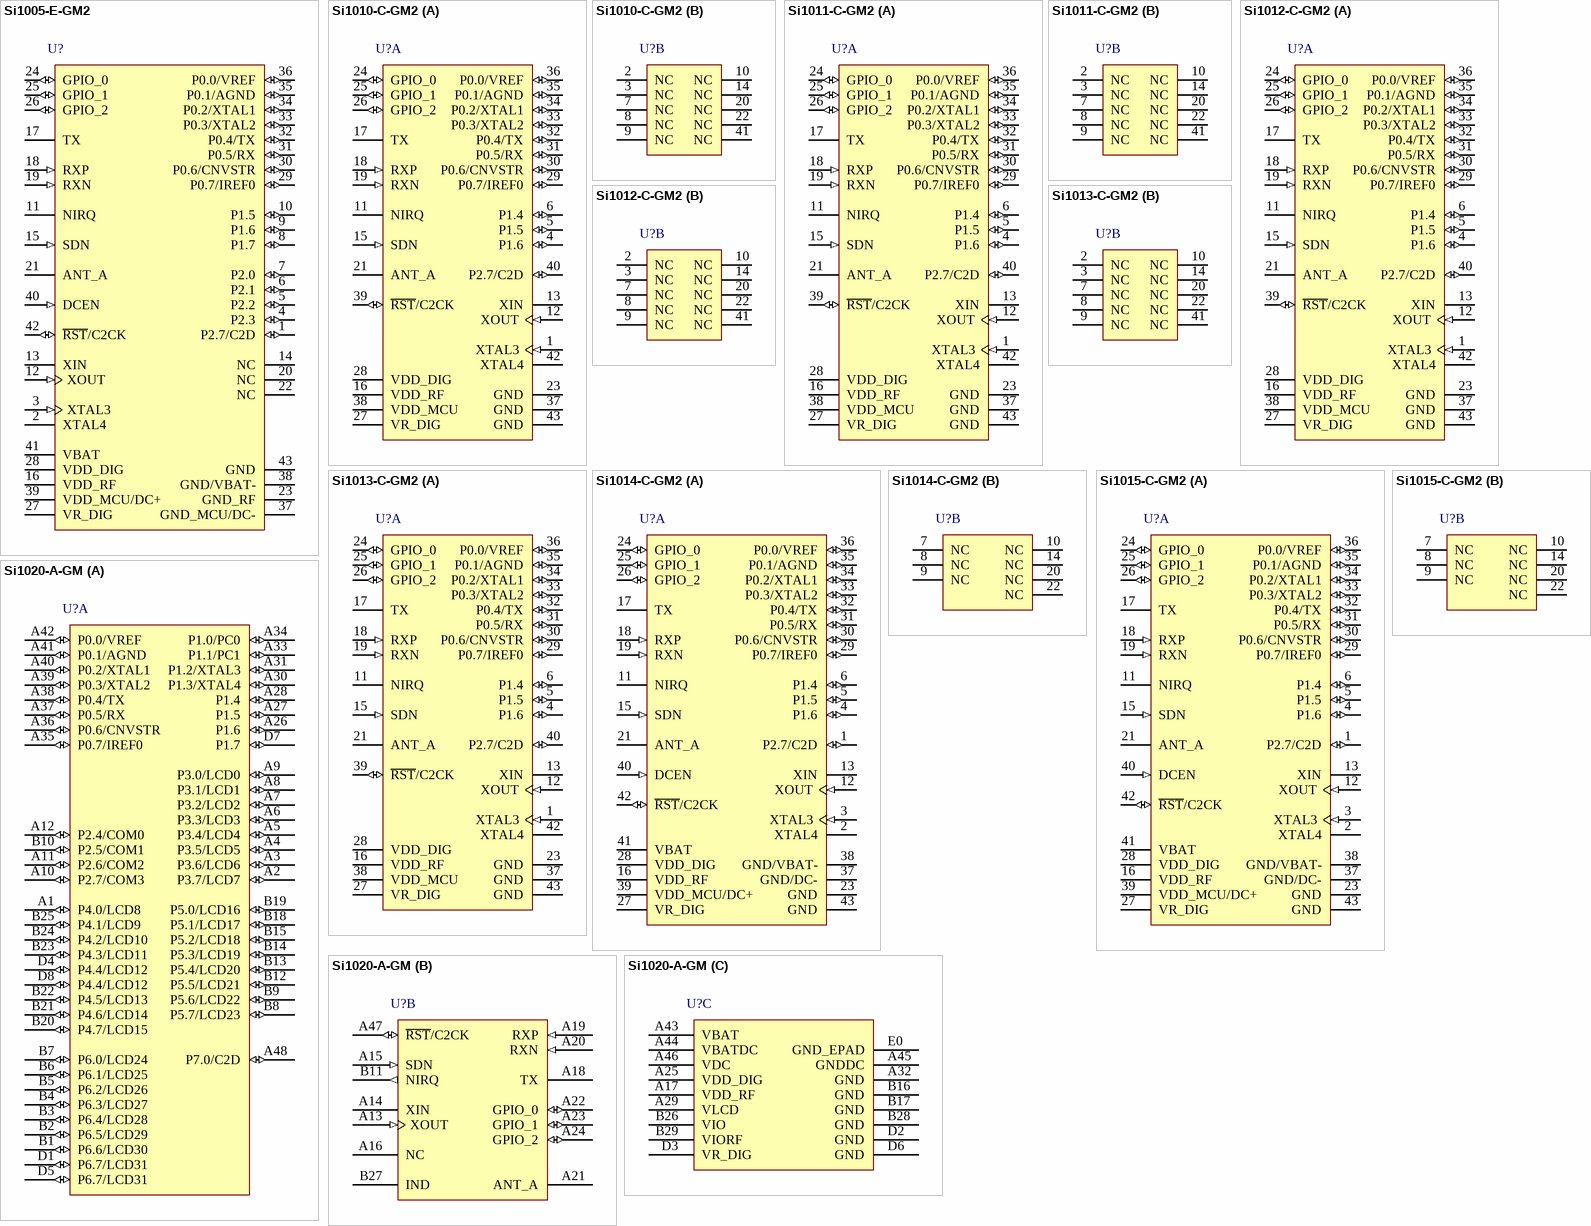
[diagram p1: symbols Si1005-E-GM2 to Si1020-A-GM]